# Altium footprint library FUSC1608X65N.PcbLib: 1 footprints
Each footprint in its own frame and in the unit in brackets; x right, y up, seen from the top. Pads: shape width x height; smd on the part's side, far side on the other; paste and mask are expansions set on the pad; w line width, h text height; cw(c..) or ccw(c..) is an arc to the next point about the centre after c.
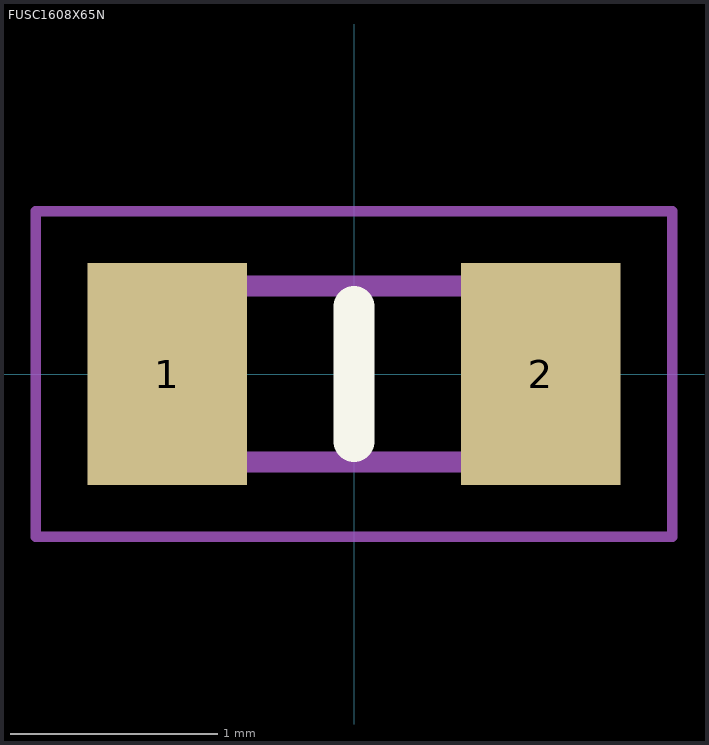
[diagram p0: the footprint, top view; thin cyan lines are the x and y axes]

## FUSC1608X65N [mm]
pads (2):
  rect 0.77x1.07 smd: 1(-0.9,0) 2(0.9,0)
Top Overlay:
  lines w0.2: 0,-0.325 0,0.325
Mechanical 15:
  lines w0.1: -0.825,-0.425 0.825,-0.425 0.825,0.425 -0.825,0.425 -0.825,-0.425
Mechanical 20:
  lines w0.05: -1.535,-0.785 1.535,-0.785 1.535,0.785 -1.535,0.785 -1.535,-0.785